# Altium footprint library Footprints.PcbLib: 12 footprints
Each footprint in its own frame and in the unit in brackets; x right, y up, seen from the top. Pads: shape width x height; smd on the part's side, far side on the other; paste and mask are expansions set on the pad; w line width, h text height; cw(c..) or ccw(c..) is an arc to the next point about the centre after c.
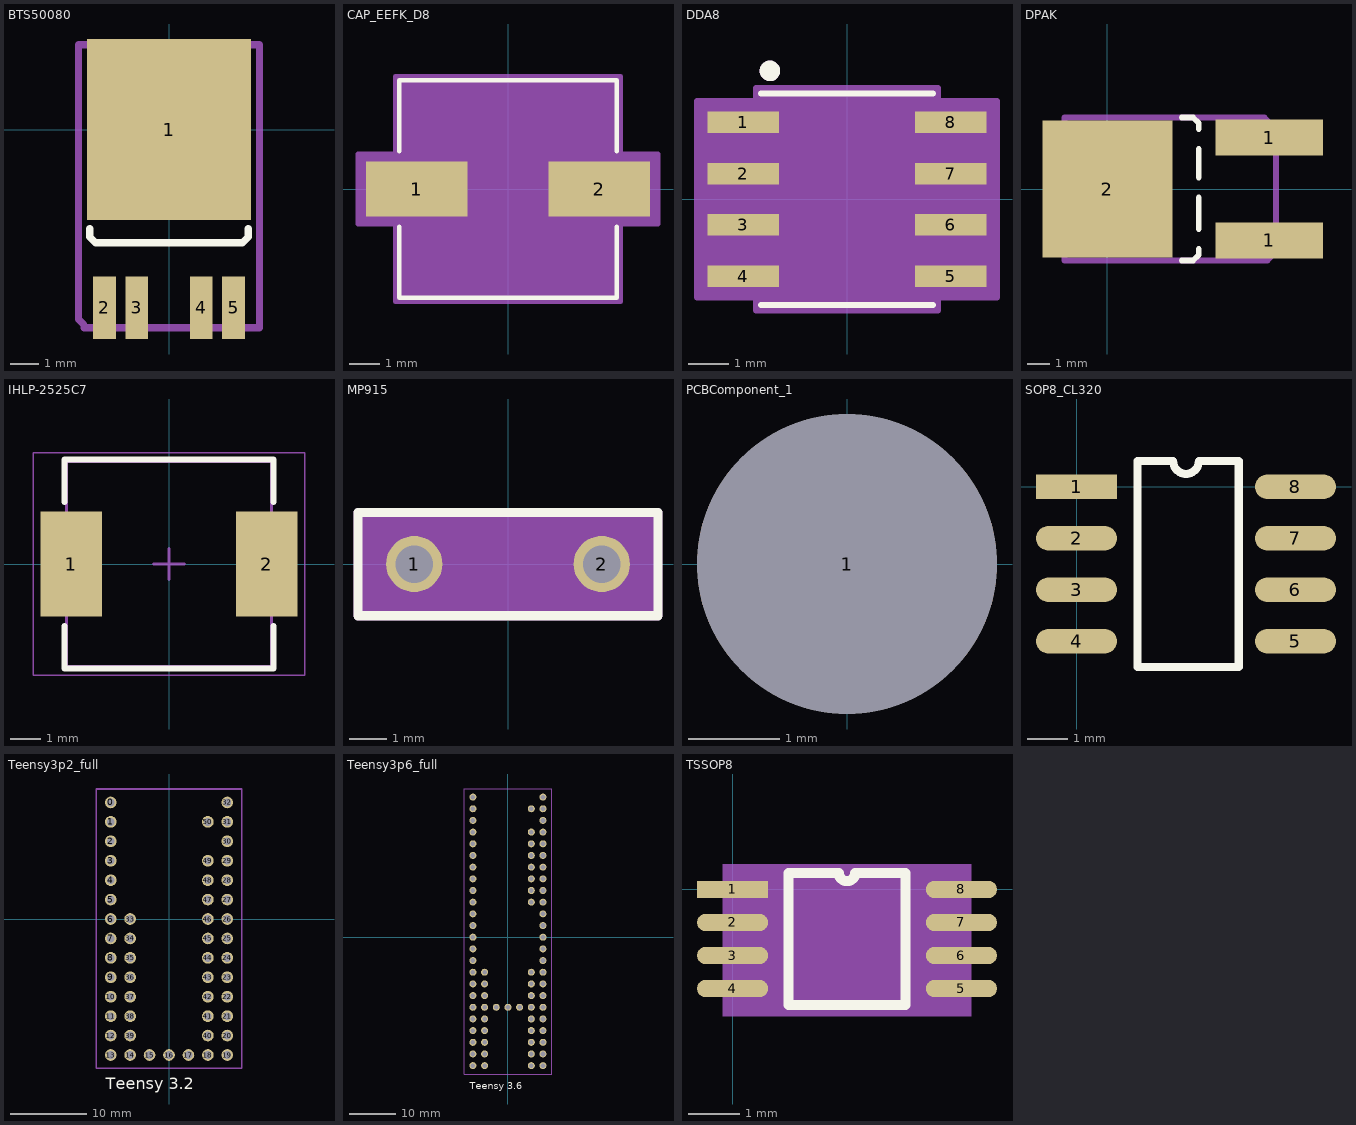
[diagram p0: the footprints below, top view; thin cyan lines are the x and y axes]

## BTS50080 [mm] "Smart High-Side Power Switch"
height 2.4
pads (5):
  rect 5.8x6.4 smd: 1(0,0)
  rect 0.8x2.2 smd: 2(-2.28,-6.3) 3(-1.14,-6.3) 4(1.14,-6.3) 5(2.28,-6.3)
Top Overlay:
  lines w0.254: -2.8,-3.5 -2.8,-3.8 -2.6,-4 2.6,-4 2.8,-3.8 2.8,-3.5
Mechanical 15:
  lines w0.254: -3.2,-6.7 -3,-6.9 -3,-7 3.2,-7 3.2,3 -3.2,3 -3.2,-6.7

## CAP_EEFK_D8 [mil]
pads (2):
  rect 130x70 smd paste+0 mask+0: 1(-116.5,0) 2(116.5,0)
Top Overlay:
  lines w6: -139,-48.1 -139,-139 139,-139 139,-48.1 ; -139,48.1 -139,139 139,139 139,48.1
Mechanical 13:
  lines w1: -134,-67 -67,-134 ; -134,67 -67,134 ; -134,-134 -134,134 134,134 134,-134 -134,-134
Mechanical 15:
  region: -144,-45 -191.5,-45 -191.5,45 -144,45 -144,144 144,144 144,45 191.5,45 191.5,-45 144,-45 144,-144 -144,-144
  lines w6: -191.5,-45 -144,-45 -144,-144 144,-144 144,-45 191.5,-45 191.5,45 144,45 144,144 -144,144 -144,45 -191.5,45 -191.5,-45
3D body: height 10, standoff 0, extent 0,0 10,10
3D body "STL?STL?STEP?CAP_EEFK_D8.step": height 317.09, standoff 0, extent -153.5,-134.02 153.5,134.02

## DDA8 [mil]
pads (8):
  rect 70x21 smd paste+0 mask+0: 1(-101,75) 2(-101,25) 3(-101,-25) 4(-101,-75) 5(101,-75) 6(101,-25) 7(101,25) 8(101,75)
Top Overlay:
  circle w10: c-75,125 r5
  lines w6: -83.5,-103 83.5,-103 ; -83.5,103 83.5,103
Mechanical 13:
  circle w10: c-75,125 r5
  lines w0: -12,98 ccw(c0,98) 12,98
  lines w1: -122,-84.5 -78.5,-84.5 -78.5,-65.5 -122,-65.5 -122,-84.5 ; -122,-34.5 -78.5,-34.5 -78.5,-15.5 -122,-15.5 -122,-34.5 ; -122,15.5 -78.5,15.5 -78.5,34.5 -122,34.5 -122,15.5 ; -122,65.5 -78.5,65.5 -78.5,84.5 -122,84.5 -122,65.5 ; -78.5,-98 -78.5,98 78.5,98 78.5,-98 -78.5,-98 ; 78.5,-84.5 122,-84.5 122,-65.5 78.5,-65.5 78.5,-84.5 ; 78.5,-34.5 122,-34.5 122,-15.5 78.5,-15.5 78.5,-34.5 ; 78.5,15.5 122,15.5 122,34.5 78.5,34.5 78.5,15.5 ; 78.5,65.5 122,65.5 122,84.5 78.5,84.5 78.5,65.5
Mechanical 15:
  region: -88.5,-95.5 -146,-95.5 -146,95.5 -88.5,95.5 -88.5,108 88.5,108 88.5,95.5 146,95.5 146,-95.5 88.5,-95.5 88.5,-108 -88.5,-108
  lines w6: -146,-95.5 -88.5,-95.5 -88.5,-108 88.5,-108 88.5,-95.5 146,-95.5 146,95.5 88.5,95.5 88.5,108 -88.5,108 -88.5,95.5 -146,95.5 -146,-95.5
3D body: height 10, standoff 0, extent -75,-100 75,100
3D body "STL?STL?STEP?DDA8.step": height 66.1, standoff 0, extent -122,-97.99 122.01,98

## DPAK [mil] "Switch mode power recifyer IC"
height 94
pads (3):
  rect 188x63 smd: 1(283,-90) 1(283,90)
  rect 228x240 smd: 2(0,0)
Top Overlay:
  lines w10: 130,-125 150,-125 160,-115 160,-105 ; 130,125 150,125 160,115 160,105 ; 160,-70 160,-15 ; 160,20 160,70
Mechanical 13:
  lines w10: -75,-125 -75,125 275,125 295,105 295,-110 280,-125 -75,-125
Drill Drawing:
  lines w10: -125,-150 400,-150 400,150 -125,150 -125,-150
3D body: height 10, standoff 0, extent 66.93,-11.81 66.93,-11.81
3D body: height 10, standoff 0, extent 160,125 160,125
3D body: height 93.7, standoff 7.09, extent -85,-125 160,125
3D body: height 24.02, standoff 0, extent -135,-110 70,105

## IHLP-2525C7 [mm] "Chip Inductor, 2-Leads, Body 6.47x6.47mm, IPC Medium Density"
height 3
pads (2):
  rect 2.02x3.429 smd: 1(-3.2,0) 2(3.2,0)
Top Overlay:
  lines w0.2: -3.429,-2.032 -3.429,-3.429 3.429,-3.429 3.429,-2.032 ; -3.429,2.032 -3.429,3.429 3.429,3.429 3.429,2.032
Mechanical 13:
  lines w0.1: -3.36,-3.36 3.36,-3.36 3.36,3.36 -3.36,3.36 -3.36,-3.36
Mechanical 15:
  lines w0.05: -4.445,-3.65 4.445,-3.65 4.445,3.65 -4.445,3.65 -4.445,-3.65
  lines w0.1: -0.5,0 0.5,0 ; 0,-0.5 0,0.5
3D body "IHLP2525CZ.STEP": height 2.89, standoff 0, extent -3.538,-3.302 3.538,3.368

## MP915 [mil]
height 472.44
pads (2):
  round 60 hole 40: 1(-100,0) 2(100,0)
Top Overlay:
  lines w10: -160,-55 -160,55 160,55 160,-55 -160,-55
Mechanical 15:
  rectangle: -160,-55 160,55
  lines w10: -160,-55 160,-55 160,55 -160,55 -160,-55

## PCBComponent_1 [mm]
pads (1):
  round 3.3 hole 3.3 unplated: 1(0,0)

## SOP8_CL320 [mm]
pads (8):
  rect 2x0.6 smd: 1(0,0)
  oval 2x0.6 smd: 2(0,-1.27) 3(0,-2.54) 4(0,-3.81) 5(5.4,-3.81) 6(5.4,-2.54) 7(5.4,-1.27) 8(5.4,0)
Top Overlay:
  lines w0.2: 1.5,-4.445 1.5,0.635 2.382,0.635 ccw(c2.7,0.635) 3.017,0.635 4,0.635 4,-4.445 1.5,-4.445

## Teensy3p2_full [mil] "TH, all pins"
height 393.7
pads (51):
  round 60 hole 40 unplated: 0(-300,600) 1(-300,500) 2(-300,400) 3(-300,300) 4(-300,200) 5(-300,100) 6(-300,0) 7(-300,-100) 8(-300,-200) 9(-300,-300) 10(-300,-400) 11(-300,-500) 12(-300,-600) 13(-300,-700) 14(-200,-700) 15(-100,-700) 16(0,-700) 17(100,-700) 18(200,-700) 19(300,-700) 20(300,-600) 21(300,-500) 22(300,-400) 23(300,-300) 24(300,-200) 25(300,-100) 26(300,0) 27(300,100) 28(300,200) 29(300,300) 30(300,400) 31(300,500) 32(300,600) 33(-200,0) 34(-200,-100) 35(-200,-200) 36(-200,-300) 37(-200,-400) 38(-200,-500) 39(-200,-600) 40(200,-600) 41(200,-500) 42(200,-400) 43(200,-300) 44(200,-200) 45(200,-100) 46(200,0) 47(200,100) 48(200,200) 49(200,300) 50(200,500)
Top Overlay:
  text "Teensy 3.2" at -325,-875 h60
Mechanical 15:
  lines w7.87: -374.02,-767.72 -374.02,669.29 374.02,669.29 374.02,-767.72 -374.02,-767.72

## Teensy3p6_full [mil] "TH, all pins"
height 393.7
pads (77):
  round 60 hole 40: 0(-300,1200) 1(-300,1100) 2(-300,1000) 3(-300,900) 4(-300,800) 5(-300,700) 6(-300,600) 7(-300,500) 8(-300,400) 9(-300,300) 10(-300,200) 11(-300,100) 12(-300,0) 13(-300,-100) 14(-300,-200) 15(-300,-300) 16(-300,-400) 17(-300,-500) 18(-300,-600) 19(-300,-700) 20(-300,-800) 21(-300,-900) 22(-300,-1000) 23(-300,-1100) 24(300,-1100) 25(300,-1000) 26(300,-900) 27(300,-800) 28(300,-700) 29(300,-600) 30(300,-500) 31(300,-400) 32(300,-300) 33(300,-200) 34(300,-100) 35(300,0) 36(300,100) 37(300,200) 38(300,300) 39(300,400) 40(300,500) 41(300,600) 42(300,700) 43(300,800) 44(300,900) 45(300,1000) 46(300,1100) 47(300,1200) 48(-200,-600) 49(-100,-600) 50(0,-600) 51(100,-600) 52(200,-600) 53(-200,-300) 54(-200,-400) 55(-200,-500) 56(-200,-700) 57(-200,-800) 58(-200,-900) 59(-200,-1000) 60(-200,-1100) 61(200,-1100) 62(200,-1000) 63(200,-900) 64(200,-800) 65(200,-700) 66(200,-500) 67(200,-400) 68(200,-300) 69(200,300) 70(200,400) 71(200,500) 72(200,600) 73(200,700) 74(200,800) 75(200,900) 76(200,1100)
Top Overlay:
  text "Teensy 3.6" at -325,-1300 h60
Mechanical 15:
  lines w7.87: 374.02,-1175 374.02,1269.29 -374.02,1269.29 -374.02,-1175 375,-1175

## TERMINAL_BLOCK [mil]

## TSSOP8 [mm]
pads (8):
  rect 1.4x0.34 smd: 1(0,0)
  oval 1.4x0.34 smd: 2(0,-0.65) 3(0,-1.3) 4(0,-1.95) 5(4.5,-1.95) 6(4.5,-1.3) 7(4.5,-0.65) 8(4.5,0)
Top Overlay:
  lines w0.2: 1.1,-2.275 1.1,0.325 2.088,0.325 ccw(c2.25,0.325) 2.412,0.325 3.4,0.325 3.4,-2.275 1.1,-2.275
Mechanical 15:
  rectangle: -0.2,-2.5 4.7,0.5